# EAGLE library part LMH6644 (library ds_ic_opa)
LMH6644-MIL Low-Power, 130-MHz, 75-mA Rail-to-Rail Output Amplifier
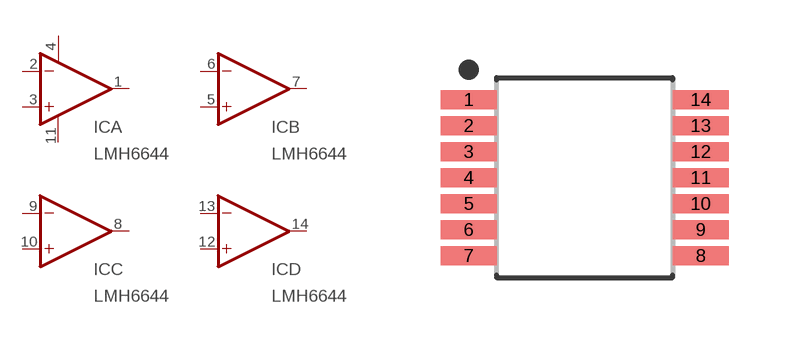
[diagram p10: symbol with the pads of SOP65P640X120-14N; footprint SOP65P640X120-14N]

Designator prefix IC; gates B=OPA C=OPA D=OPA A=OPA_PWR

## LMH6644MT  [SOP65P640X120-14N]
1  A:OUT  out
2  A:-IN  in
3  A:+IN  in
4  A:V+  pwr
5  B:+IN  in
6  B:-IN  in
7  B:OUT  out
8  C:OUT  out
9  C:-IN  in
10  C:+IN  in
11  A:V-  pwr
12  D:+IN  in
13  D:-IN  in
14  D:OUT  out

## Footprint SOP65P640X120-14N (pad centres in mm)
14-SOP, 0.65 mm pitch, 6.40 mm span, 5.00 X 4.40 X 1.20 mm body 14-pin SOP package with 0.65 mm pitch, 6.40 mm span with body size 5.00 X 4.40 X 1.20 mm
smd 1.412 x 0.472: 1 -2.9,1.95; 2 -2.9,1.3; 3 -2.9,0.65; 4 -2.9,0; 5 -2.9,-0.65; 6 -2.9,-1.3; 7 -2.9,-1.95; 8 2.9,-1.95; 9 2.9,-1.3; 10 2.9,-0.65; 11 2.9,0; 12 2.9,0.65; 13 2.9,1.3; 14 2.9,1.95